# EAGLE library part DSPIC33FJ256GP510A-I/PF (library Microchip_By_element14_Batch_1)
16-bit Digital Signal Controllers
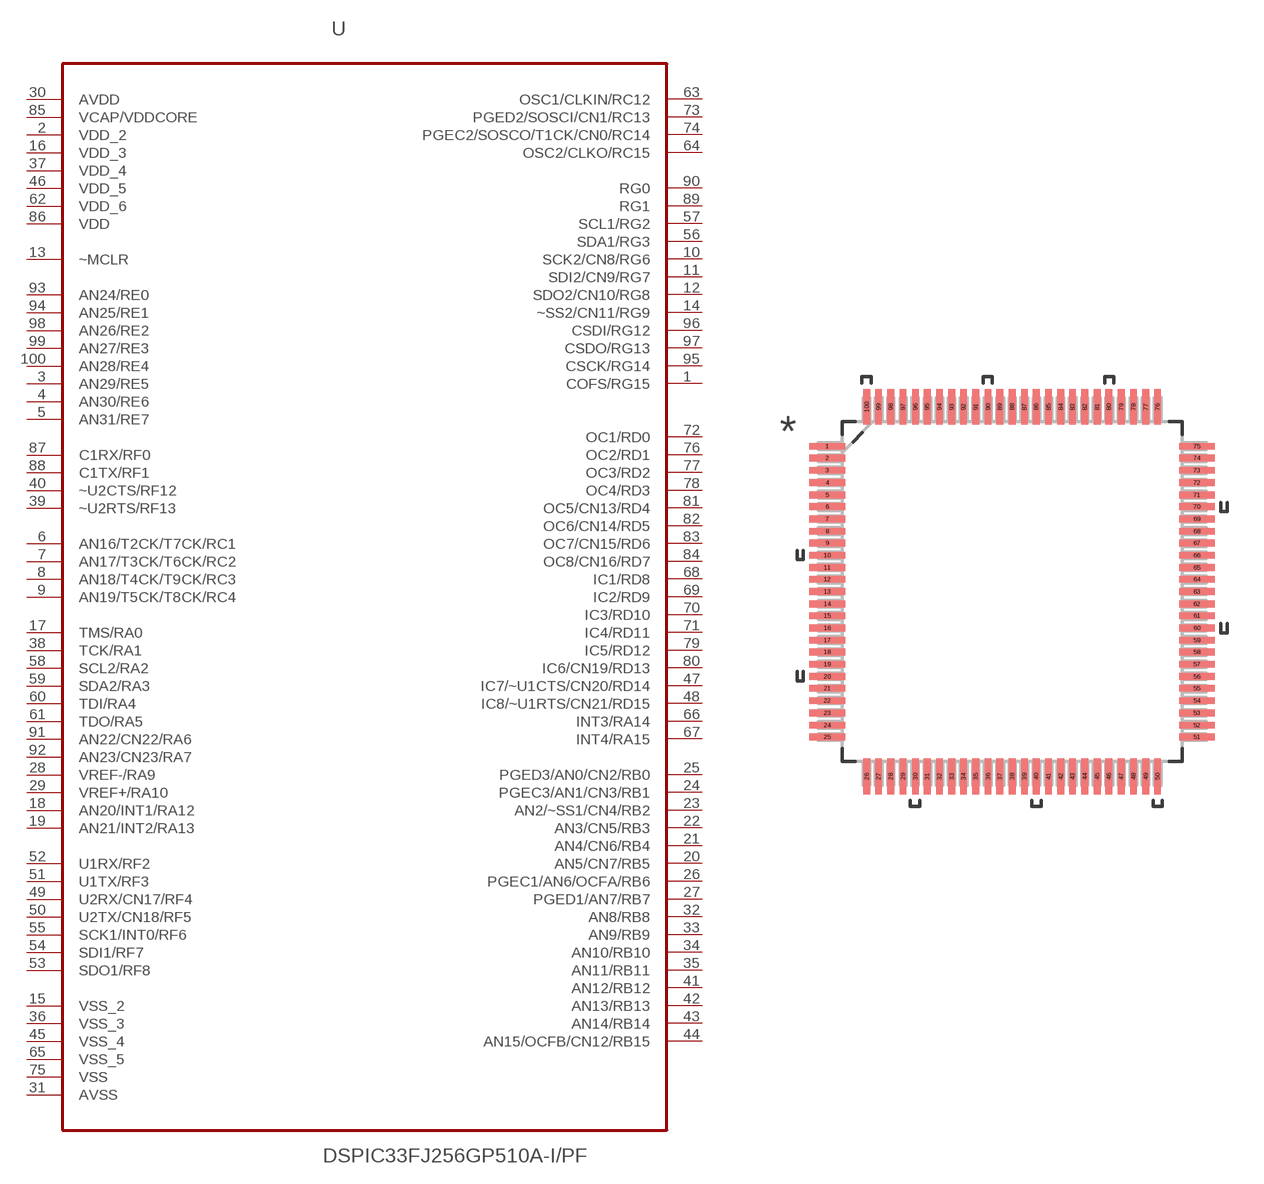
[diagram p388: symbol with the pads of QFP50P1600X1600X120-100N; footprint QFP50P1600X1600X120-100N]

Designator prefix -

## DSPIC33FJ256GP510A-I/PF (MPN: DSPIC33FJ256GP510A-I/PF; OC_FARNELL: 1801217; OC_NEWARK: 45P4649; PACKAGE: QFP-100; SUPPLIER: Microchip)  [QFP50P1600X1600X120-100N]
1  COFS/RG15
2  VDD_2  pwr
3  AN29/RE5
4  AN30/RE6
5  AN31/RE7
6  AN16/T2CK/T7CK/RC1
7  AN17/T3CK/T6CK/RC2
8  AN18/T4CK/T9CK/RC3
9  AN19/T5CK/T8CK/RC4
10  SCK2/CN8/RG6
11  SDI2/CN9/RG7
12  SDO2/CN10/RG8
13  ~MCLR  in
14  ~SS2/CN11/RG9
15  VSS_2  pwr
16  VDD_3  pwr
17  TMS/RA0
18  AN20/INT1/RA12
19  AN21/INT2/RA13
20  AN5/CN7/RB5
21  AN4/CN6/RB4
22  AN3/CN5/RB3
23  AN2/~SS1/CN4/RB2
24  PGEC3/AN1/CN3/RB1
25  PGED3/AN0/CN2/RB0
26  PGEC1/AN6/OCFA/RB6
27  PGED1/AN7/RB7
28  VREF-/RA9
29  VREF+/RA10
30  AVDD  pwr
31  AVSS  pwr
32  AN8/RB8
33  AN9/RB9
34  AN10/RB10
35  AN11/RB11
36  VSS_3  pwr
37  VDD_4  pwr
38  TCK/RA1
39  ~U2RTS/RF13
40  ~U2CTS/RF12
41  AN12/RB12
42  AN13/RB13
43  AN14/RB14
44  AN15/OCFB/CN12/RB15
45  VSS_4  pwr
46  VDD_5  pwr
47  IC7/~U1CTS/CN20/RD14
48  IC8/~U1RTS/CN21/RD15
49  U2RX/CN17/RF4
50  U2TX/CN18/RF5
51  U1TX/RF3
52  U1RX/RF2
53  SDO1/RF8
54  SDI1/RF7
55  SCK1/INT0/RF6
56  SDA1/RG3
57  SCL1/RG2
58  SCL2/RA2
59  SDA2/RA3
60  TDI/RA4
61  TDO/RA5
62  VDD_6  pwr
63  OSC1/CLKIN/RC12
64  OSC2/CLKO/RC15
65  VSS_5  pwr
66  INT3/RA14
67  INT4/RA15
68  IC1/RD8
69  IC2/RD9
70  IC3/RD10
71  IC4/RD11
72  OC1/RD0
73  PGED2/SOSCI/CN1/RC13
74  PGEC2/SOSCO/T1CK/CN0/RC14
75  VSS  pwr
76  OC2/RD1
77  OC3/RD2
78  OC4/RD3
79  IC5/RD12
80  IC6/CN19/RD13
81  OC5/CN13/RD4
82  OC6/CN14/RD5
83  OC7/CN15/RD6
84  OC8/CN16/RD7
85  VCAP/VDDCORE  pwr
86  VDD  pwr
87  C1RX/RF0
88  C1TX/RF1
89  RG1
90  RG0
91  AN22/CN22/RA6
92  AN23/CN23/RA7
93  AN24/RE0
94  AN25/RE1
95  CSCK/RG14
96  CSDI/RG12
97  CSDO/RG13
98  AN26/RE2
99  AN27/RE3
100  AN28/RE4

## Footprint QFP50P1600X1600X120-100N (pad centres in mm)
smd 1.473 x 0.279: 1 -7.62,5.994; 2 -7.62,5.512; 3 -7.62,5.004; 4 -7.62,4.496; 5 -7.62,3.988; 6 -7.62,3.505; 7 -7.62,2.997; 8 -7.62,2.489; 9 -7.62,2.007; 10 -7.62,1.499; 11 -7.62,0.991; 12 -7.62,0.508; 13 -7.62,0; 14 -7.62,-0.508; 15 -7.62,-0.991; 16 -7.62,-1.499; 17 -7.62,-2.007; 18 -7.62,-2.489; 19 -7.62,-2.997; 20 -7.62,-3.505; 21 -7.62,-3.988; 22 -7.62,-4.496; 23 -7.62,-5.004; 24 -7.62,-5.512; 25 -7.62,-5.994; 51 7.62,-5.994; 52 7.62,-5.512; 53 7.62,-5.004; 54 7.62,-4.496; 55 7.62,-3.988; 56 7.62,-3.505; 57 7.62,-2.997; 58 7.62,-2.489; 59 7.62,-2.007; 60 7.62,-1.499; 61 7.62,-0.991; 62 7.62,-0.508; 63 7.62,0; 64 7.62,0.508; 65 7.62,0.991; 66 7.62,1.499; 67 7.62,2.007; 68 7.62,2.489; 69 7.62,2.997; 70 7.62,3.505; 71 7.62,3.988; 72 7.62,4.496; 73 7.62,5.004; 74 7.62,5.512; 75 7.62,5.994
smd 0.279 x 1.473: 26 -5.994,-7.62; 27 -5.512,-7.62; 28 -5.004,-7.62; 29 -4.496,-7.62; 30 -3.988,-7.62; 31 -3.505,-7.62; 32 -2.997,-7.62; 33 -2.489,-7.62; 34 -2.007,-7.62; 35 -1.499,-7.62; 36 -0.991,-7.62; 37 -0.508,-7.62; 38 0,-7.62; 39 0.508,-7.62; 40 0.991,-7.62; 41 1.499,-7.62; 42 2.007,-7.62; 43 2.489,-7.62; 44 2.997,-7.62; 45 3.505,-7.62; 46 3.988,-7.62; 47 4.496,-7.62; 48 5.004,-7.62; 49 5.512,-7.62; 50 5.994,-7.62; 76 5.994,7.62; 77 5.512,7.62; 78 5.004,7.62; 79 4.496,7.62; 80 3.988,7.62; 81 3.505,7.62; 82 2.997,7.62; 83 2.489,7.62; 84 2.007,7.62; 85 1.499,7.62; 86 0.991,7.62; 87 0.508,7.62; 88 0,7.62; 89 -0.508,7.62; 90 -0.991,7.62; 91 -1.499,7.62; 92 -2.007,7.62; 93 -2.489,7.62; 94 -2.997,7.62; 95 -3.505,7.62; 96 -3.988,7.62; 97 -4.496,7.62; 98 -5.004,7.62; 99 -5.512,7.62; 100 -5.994,7.62